# Altium footprint library Ledtourch.PcbLib: 6 footprints
Each footprint in its own frame and in the unit in brackets; x right, y up, seen from the top. Pads: shape width x height; smd on the part's side, far side on the other; paste and mask are expansions set on the pad; w line width, h text height; cw(c..) or ccw(c..) is an arc to the next point about the centre after c.
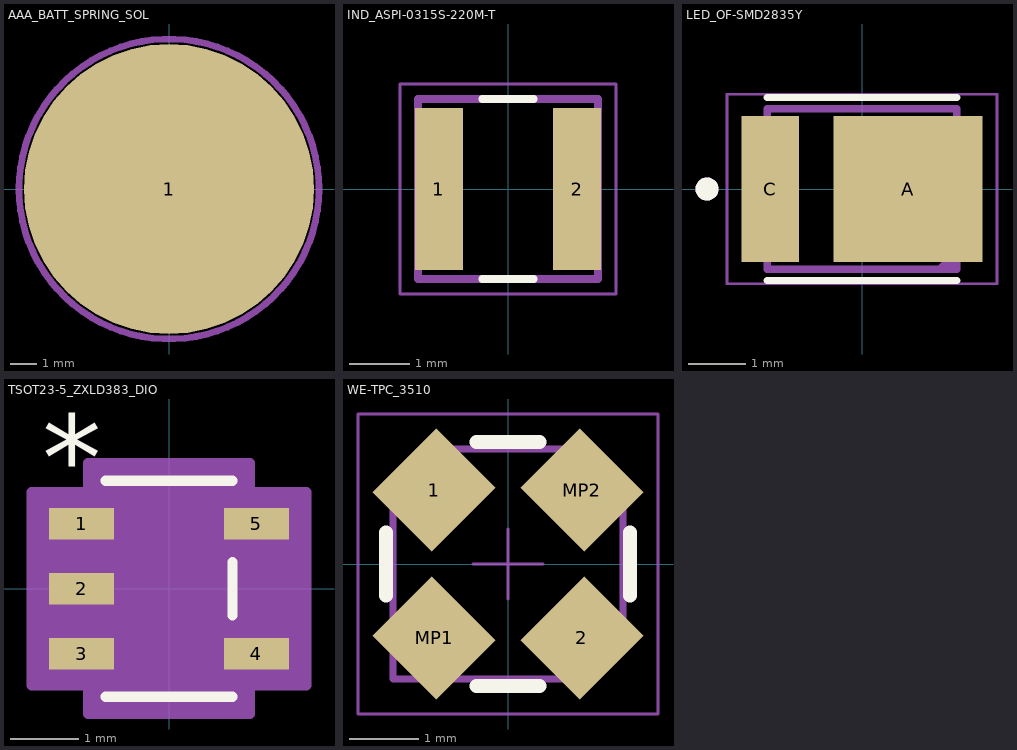
[diagram p0: the footprints below, top view; thin cyan lines are the x and y axes]

## AAA_BATT_SPRING_SOL [mm]
pads (1):
  round 11 smd: 1(0,0)
Mechanical 1:
  circle w0.254: c0,0 r5.687
3D body "5203.STEP": height 7.52, standoff -0.34, extent -4.045,-3.971 3.956,4.03

## IND_ASPI-0315S-220M-T [mm]
height 1.5
pads (2):
  rect 0.8x2.7 smd: 1(-1.15,0) 2(1.15,0)
Top Overlay:
  lines w0.127: -0.43,-1.5 0.43,-1.5 ; -0.43,1.5 0.43,1.5
Mechanical 13:
  lines w0.127: -1.5,-1.5 1.5,-1.5 1.5,1.5 -1.5,1.5 -1.5,-1.5
Mechanical 15:
  lines w0.05: -1.8,-1.75 1.8,-1.75 1.8,1.75 -1.8,1.75 -1.8,-1.75
3D body "ASPI-0315S.STEP": height 1.9, standoff 0.1, extent -1.9,-1.9 1.9,1.9

## LED_OF-SMD2835Y [mm]
pads (2):
  rect 2.6x2.55 smd: A(0.8,0)
  rect 1x2.55 smd: C(-1.6,0)
Top Overlay:
  circle w0.2: c-2.7,0 r0.1
  lines w0.127: -1.65,-1.595 1.65,-1.595 ; -1.65,1.595 1.65,1.595
Mechanical 13:
  circle w0.2: c-2.7,0 r0.1
  lines w0.127: 1.35,-1.4 1.45,-1.4 ; 1.35,-1.4 -1.65,-1.4 -1.65,1.4 1.65,1.4 1.65,-1.1 ; 1.35,-1.4 1.65,-1.1 ; 1.45,-1.4 1.65,-1.4 1.65,-1.2 ; 1.45,-1.4 1.65,-1.2 ; 1.65,-1.2 1.65,-1.1
Mechanical 15:
  lines w0.05: -2.35,-1.65 2.35,-1.65 2.35,1.65 -2.35,1.65 -2.35,-1.65
3D body "OF-SMD2835Y--3DModel-STEP-56544.STEP": height 0.75, standoff 0, extent -1.75,-1.4 1.75,1.4

## PCBComponent_1 [mm]

## TSOT23-5_ZXLD383_DIO [mil]
pads (5):
  rect 37.5x18 smd paste+0 mask+0: 1(-50.25,37.4) 2(-50.25,0) 3(-50.25,-37.4) 4(50.25,-37.4) 5(50.25,37.4)
Top Overlay:
  lines w6: -36.5,-62 36.5,-62 ; -36.5,62 36.5,62 ; 36.5,-15.3 36.5,15.3
  text "*" at -72.75,50.4 h50
Mechanical 13:
  lines w0: -12,57 ccw(c0,57) 12,57
  lines w1: -55,-46.4 -55,-28.4 -31.5,-28.4 -31.5,-46.4 -55,-46.4 ; -55,-9 -55,9 -31.5,9 -31.5,-9 -55,-9 ; -55,28.4 -55,46.4 -31.5,46.4 -31.5,28.4 -55,28.4 ; -31.5,-57 31.5,-57 31.5,57 -31.5,57 -31.5,-57 ; 31.5,-46.4 31.5,-28.4 55,-28.4 55,-46.4 31.5,-46.4 ; 31.5,28.4 31.5,46.4 55,46.4 55,28.4 31.5,28.4
  text "*" at -34,7.4 h50
Mechanical 15:
  region: 46.5,-72 -46.5,-72 -46.5,-55.4 -79,-55.4 -79,55.4 -46.5,55.4 -46.5,72 46.5,72 46.5,55.4 79,55.4 79,-55.4 46.5,-55.4
  lines w6: -79,-55.4 -46.5,-55.4 -46.5,-72 46.5,-72 46.5,-55.4 79,-55.4 79,55.4 46.5,55.4 46.5,72 -46.5,72 -46.5,55.4 -79,55.4 -79,-55.4
3D body "TSOT23-5_ZXLD383_DIO.step": height 39.09, standoff 0, extent -55,-57.01 55,57.01

## WE-TPC_3510 [mm] "Power Inductor, SMD, 4-Leads, body 3.3x3.5mm"
height 0.95
pads (4):
  rect 1.3x1.2 smd rot 45: 1(-1.061,1.061) 2(1.061,-1.061)
  rect 1.2x1.3 smd rot 45: MP1(-1.061,-1.061) MP2(1.061,1.061)
Top Overlay:
  lines w0.2: -1.75,-0.45 -1.75,0.45 ; -0.45,-1.75 0.45,-1.75 ; -0.45,1.75 0.45,1.75 ; 1.75,-0.45 1.75,0.45
Top 3D Body:
  lines w0.1: 0.85,-1.65 -1.65,-1.65 -1.65,0.85 -0.85,1.65 0.85,1.65 1.65,0.85 1.65,-0.85 0.85,-1.65 ; 0.85,-1.65 0.85,-1.65
Top Courtyard:
  lines w0.05: -2.15,-2.15 2.15,-2.15 2.15,2.15 -2.15,2.15 -2.15,-2.15
Top Designator:
  text ".Designator" at -3.499,-0.233 h0.7
Top Component Outline:
  lines w0.1: 0.85,-1.65 -1.65,-1.65 -1.65,0.85 -0.85,1.65 0.85,1.65 1.65,0.85 1.65,-0.85 0.85,-1.65 ; 0.85,-1.65 0.85,-1.65
Top Component Center:
  lines w0.05: -0.5,0 0.5,0 ; 0,-0.5 0,0.5
3D body "744030xxx.stp": height 0.95, standoff 0, extent -1.65,-1.65 1.65,1.65